# EAGLE library part EE_SW (library 000001)
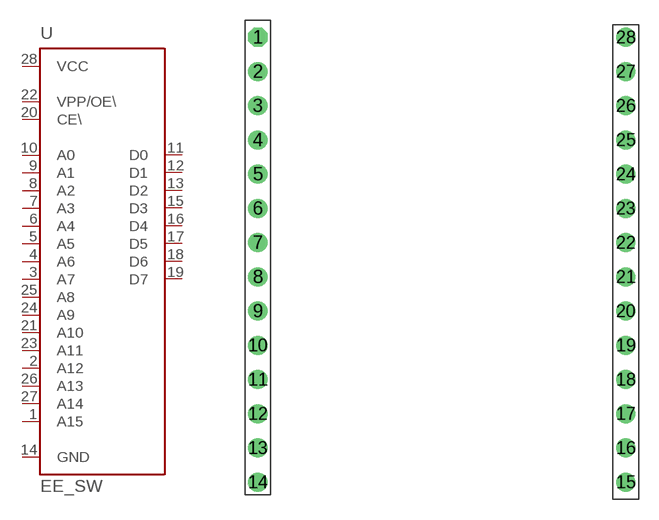
[diagram p100: symbol with the pads of EE_SW; footprint EE_SW]

Designator prefix -

## EE_SW  [EE_SW]
1  A15  in
2  A12  in
3  A7  in
4  A6  in
5  A5  in
6  A4  in
7  A3  in
8  A2  in
9  A1  in
10  A0  in
11  D0  hiz
12  D1  hiz
13  D2  hiz
14  GND  pwr
15  D3  hiz
16  D4  hiz
17  D5  hiz
18  D6  hiz
19  D7  hiz
20  CE\  in
21  A10  in
22  VPP/OE\  in
23  A11  in
24  A9  in
25  A8  in
26  A13  in
27  A14  in
28  VCC  pwr

## Footprint EE_SW (pad centres in mm)
drill 0.5 pad 1.422 octagon: 1 -13.652,22.86
drill 0.5 pad 1.422 round: 2 -13.652,20.32; 3 -13.652,17.78; 4 -13.652,15.24; 5 -13.652,12.7; 6 -13.652,10.16; 7 -13.652,7.62; 8 -13.652,5.08; 9 -13.652,2.54; 10 -13.652,0; 11 -13.652,-2.54; 12 -13.652,-5.08; 13 -13.652,-7.62; 14 -13.652,-10.16; 15 13.652,-10.16; 16 13.652,-7.62; 17 13.652,-5.08; 18 13.652,-2.54; 19 13.652,0; 20 13.652,2.54; 21 13.652,5.08; 22 13.652,7.62; 23 13.652,10.16; 24 13.652,12.7; 25 13.652,15.24; 26 13.652,17.78; 27 13.652,20.32; 28 13.652,22.86